# EAGLE library part 5103310-1 (library Tyco_By_element14_Batch_1)
WIRE-BOARD CONN, HEADER, 10POS
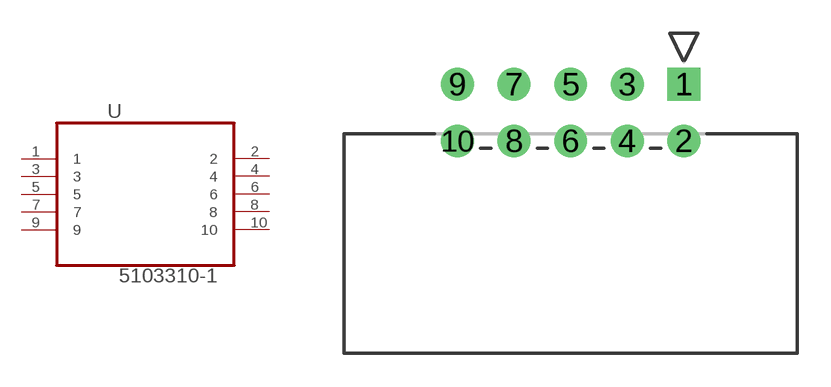
[diagram p105: symbol with the pads of TYCO_5103310-1; footprint TYCO_5103310-1]

Designator prefix U

## 5103310-1 (MPN: 5103310-1; OC_FARNELL: 1374910; OC_NEWARK: 39M4087; PACKAGE: 10 WAY HEADER; SUPPLIER: TycoElectronics)  [TYCO_5103310-1]
1  1  pas
2  2  pas
3  3  pas
4  4  pas
5  5  pas
6  6  pas
7  7  pas
8  8  pas
9  9  pas
10  10  pas

## Footprint TYCO_5103310-1 (pad centres in mm)
drill 0.965 square: 1 0,5.08
drill 0.965: 2 0,2.54; 3 -2.54,5.08; 4 -2.54,2.54; 5 -5.08,5.08; 6 -5.08,2.54; 7 -7.62,5.08; 8 -7.62,2.54; 9 -10.16,5.08; 10 -10.16,2.54